# EAGLE library part HM-11 (library Bluetooth)
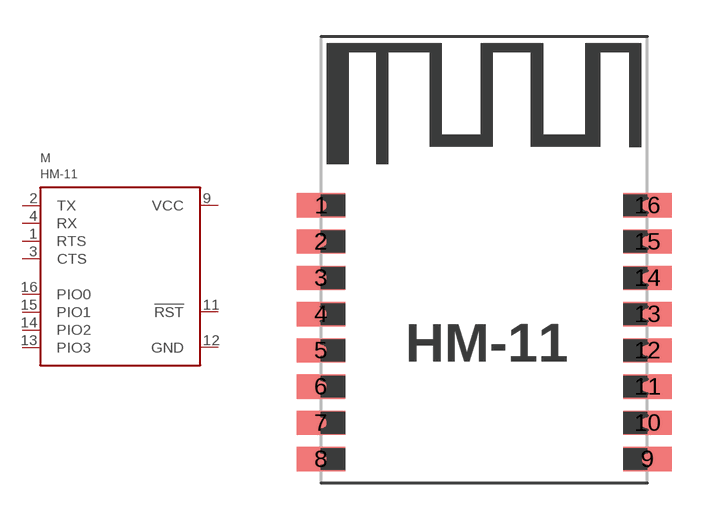
[diagram p0: symbol with the pads of HM-11; footprint HM-11]

Designator prefix M

## HM-11  [HM-11]
1  RTS
2  TX
3  CTS
4  RX
9  VCC
11  !RST!
12  GND
13  PIO3
14  PIO2
15  PIO1
16  PIO0

## Footprint HM-11 (pad centres in mm)
smd 2 x 1: 1 0,10.5; 2 0,9; 3 0,7.5; 4 0,6; 5 0,4.5; 6 0,3; 7 0,1.5; 8 0,0; 9 13.5,0; 10 13.5,1.5; 11 13.5,3; 12 13.5,4.5; 13 13.5,6; 14 13.5,7.5; 15 13.5,9; 16 13.5,10.5